# Altium integrated library test_lib.IntLib: 29 symbols (part 1 of 2)
Pins are listed as number, name and electrical type; pins without a type are passive.

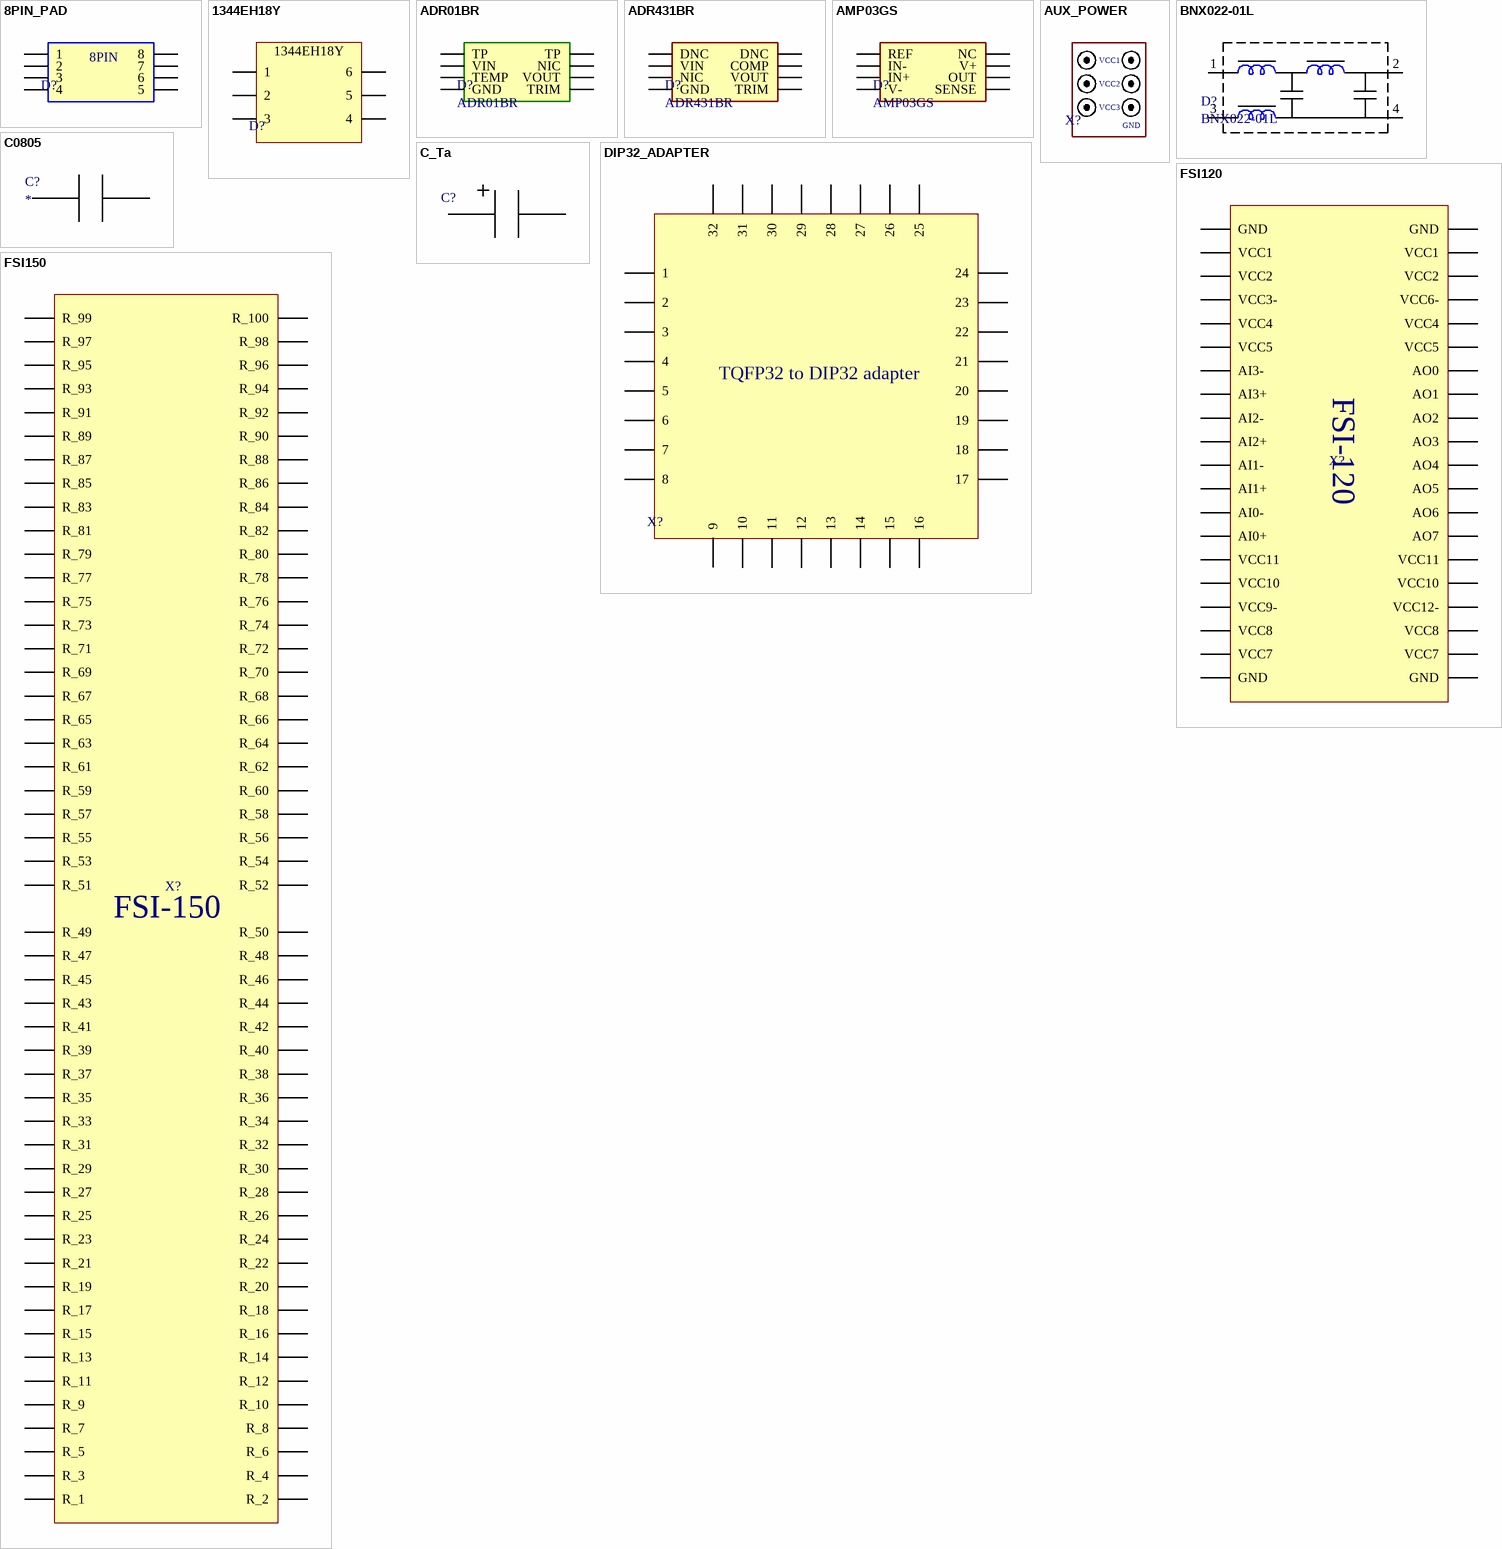
[diagram p0: symbols 8PIN_PAD to FSI150]

## 8PIN_PAD
designator D?  (value not drawn)
footprint 8PIN_PAD
pins: 1, 2, 3, 4, 5, 6, 7, 8
text: 8PIN

## 1344EH18Y
designator D?
pins: 1, 2, 3, 4, 5, 6

## ADR01BR
designator D?
precision voltage reference
footprint 8LEAD_SOIC (8LEAD SOIC ANALOG DEVICES)
pins: 1 TP, 2 VIN, 3 TEMP, 4 GND, 5 TRIM, 6 VOUT, 7 NIC, 8 TP

## ADR431BR
designator D?
low noise voltage reference
footprint 8LEAD_SOIC (8LEAD SOIC ANALOG DEVICES)
pins: 1 DNC, 2 VIN, 3 NIC, 4 GND, 5 TRIM, 6 VOUT, 7 COMP, 8 DNC

## AMP03GS
designator D?
precision differential amplifier
footprint 8LEAD_SOIC (8LEAD SOIC ANALOG DEVICES)
pins: 1 REF, 2 IN-, 3 IN+, 4 V-, 5 SENSE, 6 OUT, 7 V+, 8 NC

## AUX_POWER
designator X?  (value not drawn)
auxiliary power port (4110)
footprint AUX_POWER (auxiliary power port)
pins: 1, 2, 3, 4, 5, 6
text: VCC1; VCC2; VCC3; GND

## BNX022-01L
designator D?
emi suppression filter
footprint BNX022-01L (emi suppression filter)
pins: 1 B, 2 CB, 3 PSG, 4 CG

## C0805
designator C?
0805 ceramic capacitor; Capacity: *
footprint 0805 (0805 footprint)
pins: 1, 2

## C_Ta
designator C?  (value not drawn)
tantalum capacitor
footprint C_Ta
pins: 1, 2

## DIP32_ADAPTER
designator X?  (value not drawn)
footprint DIP_ADAPTER
pins: 1, 2, 3, 4, 5, 6, 7, 8, 9, 10, 11, 12, 13, 14, 15, 16, 17, 18, 19, 20, 21, 22, 23, 24, 25, 26, 27, 28, 29, 30, 31, 32
text: TQFP32 to DIP32 adapter

## FSI120
designator X?  (value not drawn)
footprint FSI-120
pins: 1 GND, 2 VCC7, 3 VCC8, 4 VCC9-, 5 VCC10, 6 VCC11, 7 AI0+, 8 AI0-, 9 AI1+, 10 AI1-, 11 AI2+, 12 AI2-, 13 AI3+, 14 AI3-, 15 VCC5, 16 VCC4, 17 VCC3-, 18 VCC2, 19 VCC1, 20 GND, 21 GND, 22 VCC1, 23 VCC2, 24 VCC6-, 25 VCC4, 26 VCC5, 27 AO0, 28 AO1, 29 AO2, 30 AO3, 31 AO4, 32 AO5, 33 AO6, 34 AO7, 35 VCC11, 36 VCC10, 37 VCC12-, 38 VCC8, 39 VCC7, 40 GND
text: FSI-120

## FSI150
designator X?  (value not drawn)
footprint FSI-150
pins: R_1, R_2, R_3, R_4, R_5, R_6, R_7, R_8, R_9, R_10, R_11, R_12, R_13, R_14, R_15, R_16, R_17, R_18, R_19, R_20, R_21, R_22, R_23, R_24, R_25, R_26, R_27, R_28, R_29, R_30, R_31, R_32, R_33, R_34, R_35, R_36, R_37, R_38, R_39, R_40, R_41, R_42, R_43, R_44, R_45, R_46, R_47, R_48, R_49, R_50, R_51, R_52, R_53, R_54, R_55, R_56, R_57, R_58, R_59, R_60, R_61, R_62, R_63, R_64, R_65, R_66, R_67, R_68, R_69, R_70, R_71, R_72, R_73, R_74, R_75, R_76, R_77, R_78, R_79, R_80, R_81, R_82, R_83, R_84, R_85, R_86, R_87, R_88, R_89, R_90, R_91, R_92, R_93, R_94, R_95, R_96, R_97, R_98, R_99, R_100
text: FSI-150

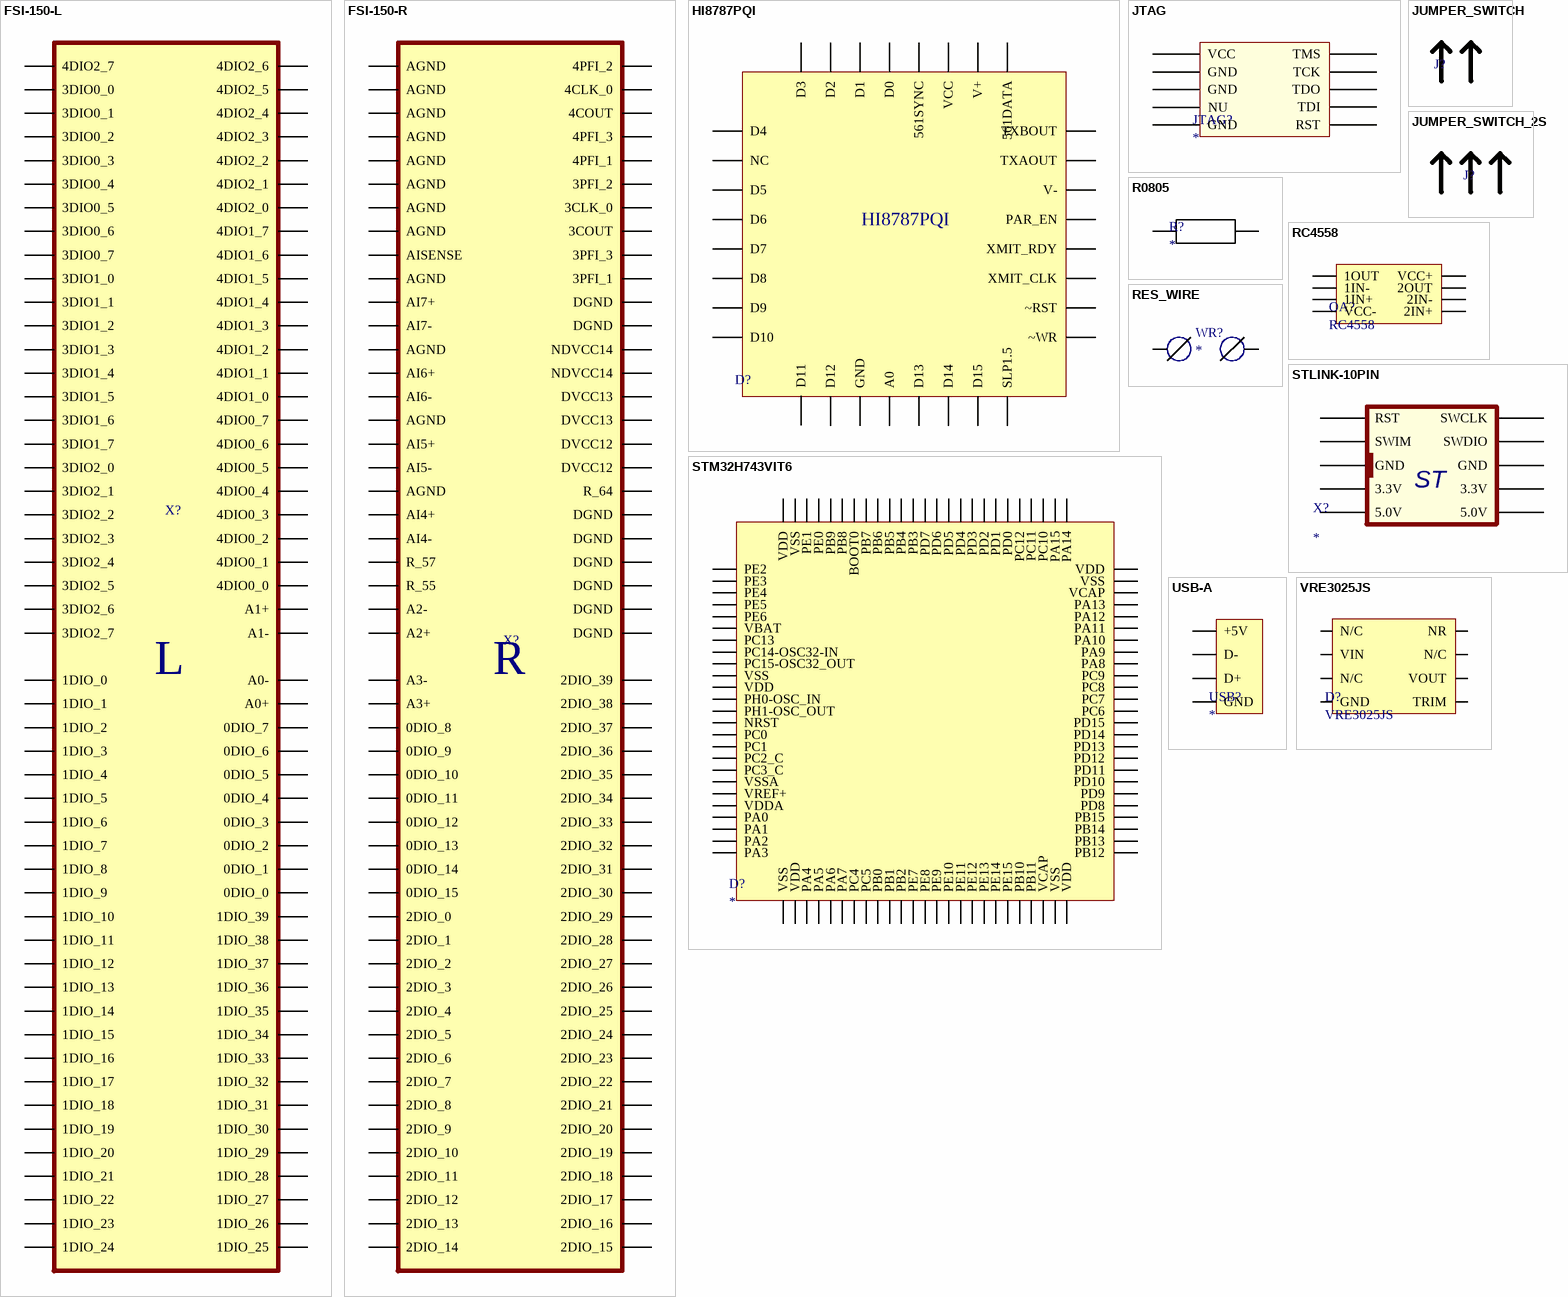
[diagram p1: symbols FSI-150-L to VRE3025JS]

## FSI-150-L
designator X?  (value not drawn)
fsi 150 left
footprint FSI-150
pins: R_1 1DIO_24, R_2 1DIO_25, R_3 1DIO_23, R_4 1DIO_26, R_5 1DIO_22, R_6 1DIO_27, R_7 1DIO_21, R_8 1DIO_28, R_9 1DIO_20, R_10 1DIO_29, R_11 1DIO_19, R_12 1DIO_30, R_13 1DIO_18, R_14 1DIO_31, R_15 1DIO_17, R_16 1DIO_32, R_17 1DIO_16, R_18 1DIO_33, R_19 1DIO_15, R_20 1DIO_34, R_21 1DIO_14, R_22 1DIO_35, R_23 1DIO_13, R_24 1DIO_36, R_25 1DIO_12, R_26 1DIO_37, R_27 1DIO_11, R_28 1DIO_38, R_29 1DIO_10, R_30 1DIO_39, R_31 1DIO_9, R_32 0DIO_0, R_33 1DIO_8, R_34 0DIO_1, R_35 1DIO_7, R_36 0DIO_2, R_37 1DIO_6, R_38 0DIO_3, R_39 1DIO_5, R_40 0DIO_4, R_41 1DIO_4, R_42 0DIO_5, R_43 1DIO_3, R_44 0DIO_6, R_45 1DIO_2, R_46 0DIO_7, R_47 1DIO_1, R_48 A0+, R_49 1DIO_0, R_50 A0-, R_51 3DIO2_7, R_52 A1-, R_53 3DIO2_6, R_54 A1+, R_55 3DIO2_5, R_56 4DIO0_0, R_57 3DIO2_4, R_58 4DIO0_1, R_59 3DIO2_3, R_60 4DIO0_2, R_61 3DIO2_2, R_62 4DIO0_3, R_63 3DIO2_1, R_64 4DIO0_4, R_65 3DIO2_0, R_66 4DIO0_5, R_67 3DIO1_7, R_68 4DIO0_6, R_69 3DIO1_6, R_70 4DIO0_7, R_71 3DIO1_5, R_72 4DIO1_0, R_73 3DIO1_4, R_74 4DIO1_1, R_75 3DIO1_3, R_76 4DIO1_2, R_77 3DIO1_2, R_78 4DIO1_3, R_79 3DIO1_1, R_80 4DIO1_4, R_81 3DIO1_0, R_82 4DIO1_5, R_83 3DIO0_7, R_84 4DIO1_6, R_85 3DIO0_6, R_86 4DIO1_7, R_87 3DIO0_5, R_88 4DIO2_0, R_89 3DIO0_4, R_90 4DIO2_1, R_91 3DIO0_3, R_92 4DIO2_2, R_93 3DIO0_2, R_94 4DIO2_3, R_95 3DIO0_1, R_96 4DIO2_4, R_97 3DIO0_0, R_98 4DIO2_5, R_99 4DIO2_7, R_100 4DIO2_6
text: L

## FSI-150-R
designator X?  (value not drawn)
fsi 150 right
footprint FSI-150
pins: R_1 2DIO_14, R_2 2DIO_15, R_3 2DIO_13, R_4 2DIO_16, R_5 2DIO_12, R_6 2DIO_17, R_7 2DIO_11, R_8 2DIO_18, R_9 2DIO_10, R_10 2DIO_19, R_11 2DIO_9, R_12 2DIO_20, R_13 2DIO_8, R_14 2DIO_21, R_15 2DIO_7, R_16 2DIO_22, R_17 2DIO_6, R_18 2DIO_23, R_19 2DIO_5, R_20 2DIO_24, R_21 2DIO_4, R_22 2DIO_25, R_23 2DIO_3, R_24 2DIO_26, R_25 2DIO_2, R_26 2DIO_27, R_27 2DIO_1, R_28 2DIO_28, R_29 2DIO_0, R_30 2DIO_29, R_31 0DIO_15, R_32 2DIO_30, R_33 0DIO_14, R_34 2DIO_31, R_35 0DIO_13, R_36 2DIO_32, R_37 0DIO_12, R_38 2DIO_33, R_39 0DIO_11, R_40 2DIO_34, R_41 0DIO_10, R_42 2DIO_35, R_43 0DIO_9, R_44 2DIO_36, R_45 0DIO_8, R_46 2DIO_37, R_47 A3+, R_48 2DIO_38, R_49 A3-, R_50 2DIO_39, R_51 A2+, R_52 DGND, R_53 A2-, R_54 DGND, R_55, R_56 DGND, R_57, R_58 DGND, R_59 AI4-, R_60 DGND, R_61 AI4+, R_62 DGND, R_63 AGND, R_64, R_65 AI5-, R_66 DVCC12, R_67 AI5+, R_68 DVCC12, R_69 AGND, R_70 DVCC13, R_71 AI6-, R_72 DVCC13, R_73 AI6+, R_74 NDVCC14, R_75 AGND, R_76 NDVCC14, R_77 AI7-, R_78 DGND, R_79 AI7+, R_80 DGND, R_81 AGND, R_82 3PFI_1, R_83 AISENSE, R_84 3PFI_3, R_85 AGND, R_86 3COUT, R_87 AGND, R_88 3CLK_0, R_89 AGND, R_90 3PFI_2, R_91 AGND, R_92 4PFI_1, R_93 AGND, R_94 4PFI_3, R_95 AGND, R_96 4COUT, R_97 AGND, R_98 4CLK_0, R_99 AGND, R_100 4PFI_2
text: R

## HI8787PQI
designator D?  (value not drawn)
footprint HI8787PQI
pins: 1 D4, 2 NC, 3 D5, 4 D6, 5 D7, 6 D8, 7 D9, 8 D10, 9 D11, 10 D12, 11 GND, 12 A0, 13 D13, 14 D14, 15 D15, 16 SLP1.5, 17 ~WR, 18 ~RST, 19 XMIT_CLK, 20 XMIT_RDY, 21 PAR_EN, 22 V-, 23 TXAOUT, 24 TXBOUT, 25 561DATA, 26 V+, 27 VCC, 28 561SYNC, 29 D0, 30 D1, 31 D2, 32 D3

## JTAG
designator JTAG?
jtag pld
footprint JTAG_PLD
pins: 1 VCC, 2 TMS, 3 GND, 4 TCK, 5 GND, 6 TDO, 7 NU, 8 TDI, 9 GND, 10 RST

## JUMPER_SWITCH
designator J?, comment jumper switch  (value not drawn)
footprint JUMPER_SWITCH
pins: 0, 1

## JUMPER_SWITCH_2S
designator J?
2 state jumper switch
footprint JUMPER_SWITCH_2S (2 state jumper switch)
pins: 0, 1, 2

## R0805
designator R?
0805 resistor; Resistance: *
footprint 0805
pins: 1, 2

## RC4558
designator OA?
opamp, ssop8 package
footprint RC4558 (TSOP, 8-Leads, RC4558 operation amplifier)
pins: 1 1OUT, 2 1IN-, 3 1IN+, 4 VCC-, 5 2IN+, 6 2IN-, 7 2OUT, 8 VCC+

## RES_WIRE
designator WR?
Resistance: *
footprint JUMPER_SWITCH
pins: 0, 1

## STLINK-10PIN
designator X?
разъём для китайского свистка
footprint JTAG_PLD
pins: 1 RST, 2 SWCLK, 3 SWIM, 4 SWDIO, 5 GND, 6 GND, 7 3.3V, 8 3.3V, 9 5.0V, 10 5.0V
text: ST

## STM32H743VIT6
designator D?
32-bit cortex m7 uc
footprint STM32H743VIT6 (cortex m7 uc)
pins: 1 PE2, 2 PE3, 3 PE4, 4 PE5, 5 PE6, 6 VBAT, 7 PC13, 8 PC14-OSC32-IN, 9 PC15-OSC32_OUT, 10 VSS, 11 VDD, 12 PH0-OSC_IN, 13 PH1-OSC_OUT, 14 NRST, 15 PC0, 16 PC1, 17 PC2_C, 18 PC3_C, 19 VSSA, 20 VREF+, 21 VDDA, 22 PA0, 23 PA1, 24 PA2, 25 PA3, 26 VSS, 27 VDD, 28 PA4, 29 PA5, 30 PA6, 31 PA7, 32 PC4, 33 PC5, 34 PB0, 35 PB1, 36 PB2, 37 PE7, 38 PE8, 39 PE9, 40 PE10, 41 PE11, 42 PE12, 43 PE13, 44 PE14, 45 PE15, 46 PB10, 47 PB11, 48 VCAP, 49 VSS, 50 VDD, 51 PB12, 52 PB13, 53 PB14, 54 PB15, 55 PD8, 56 PD9, 57 PD10, 58 PD11, 59 PD12, 60 PD13, 61 PD14, 62 PD15, 63 PC6, 64 PC7, 65 PC8, 66 PC9, 67 PA8, 68 PA9, 69 PA10, 70 PA11, 71 PA12, 72 PA13, 73 VCAP, 74 VSS, 75 VDD, 76 PA14, 77 PA15, 78 PC10, 79 PC11, 80 PC12, 81 PD0, 82 PD1, 83 PD2, 84 PD3, 85 PD4, 86 PD5, 87 PD6, 88 PD7, 89 PB3, 90 PB4, 91 PB5, 92 PB6, 93 PB7, 94 BOOT0, 95 PB8, 96 PB9, 97 PE0, 98 PE1, 99 VSS, 100 VDD

## USB-A
designator USB?
usb-a female header
footprint MICRO_USB (smd micro usb connector)
pins: 1 +5V, 2 D-, 3 D+, 4 GND

## VRE3025JS
designator D?
footprint VRE3025JS
pins: 1 N/C, 2 VIN, 3 N/C, 4 GND, 5 TRIM, 6 VOUT, 7 N/C, 8 NR

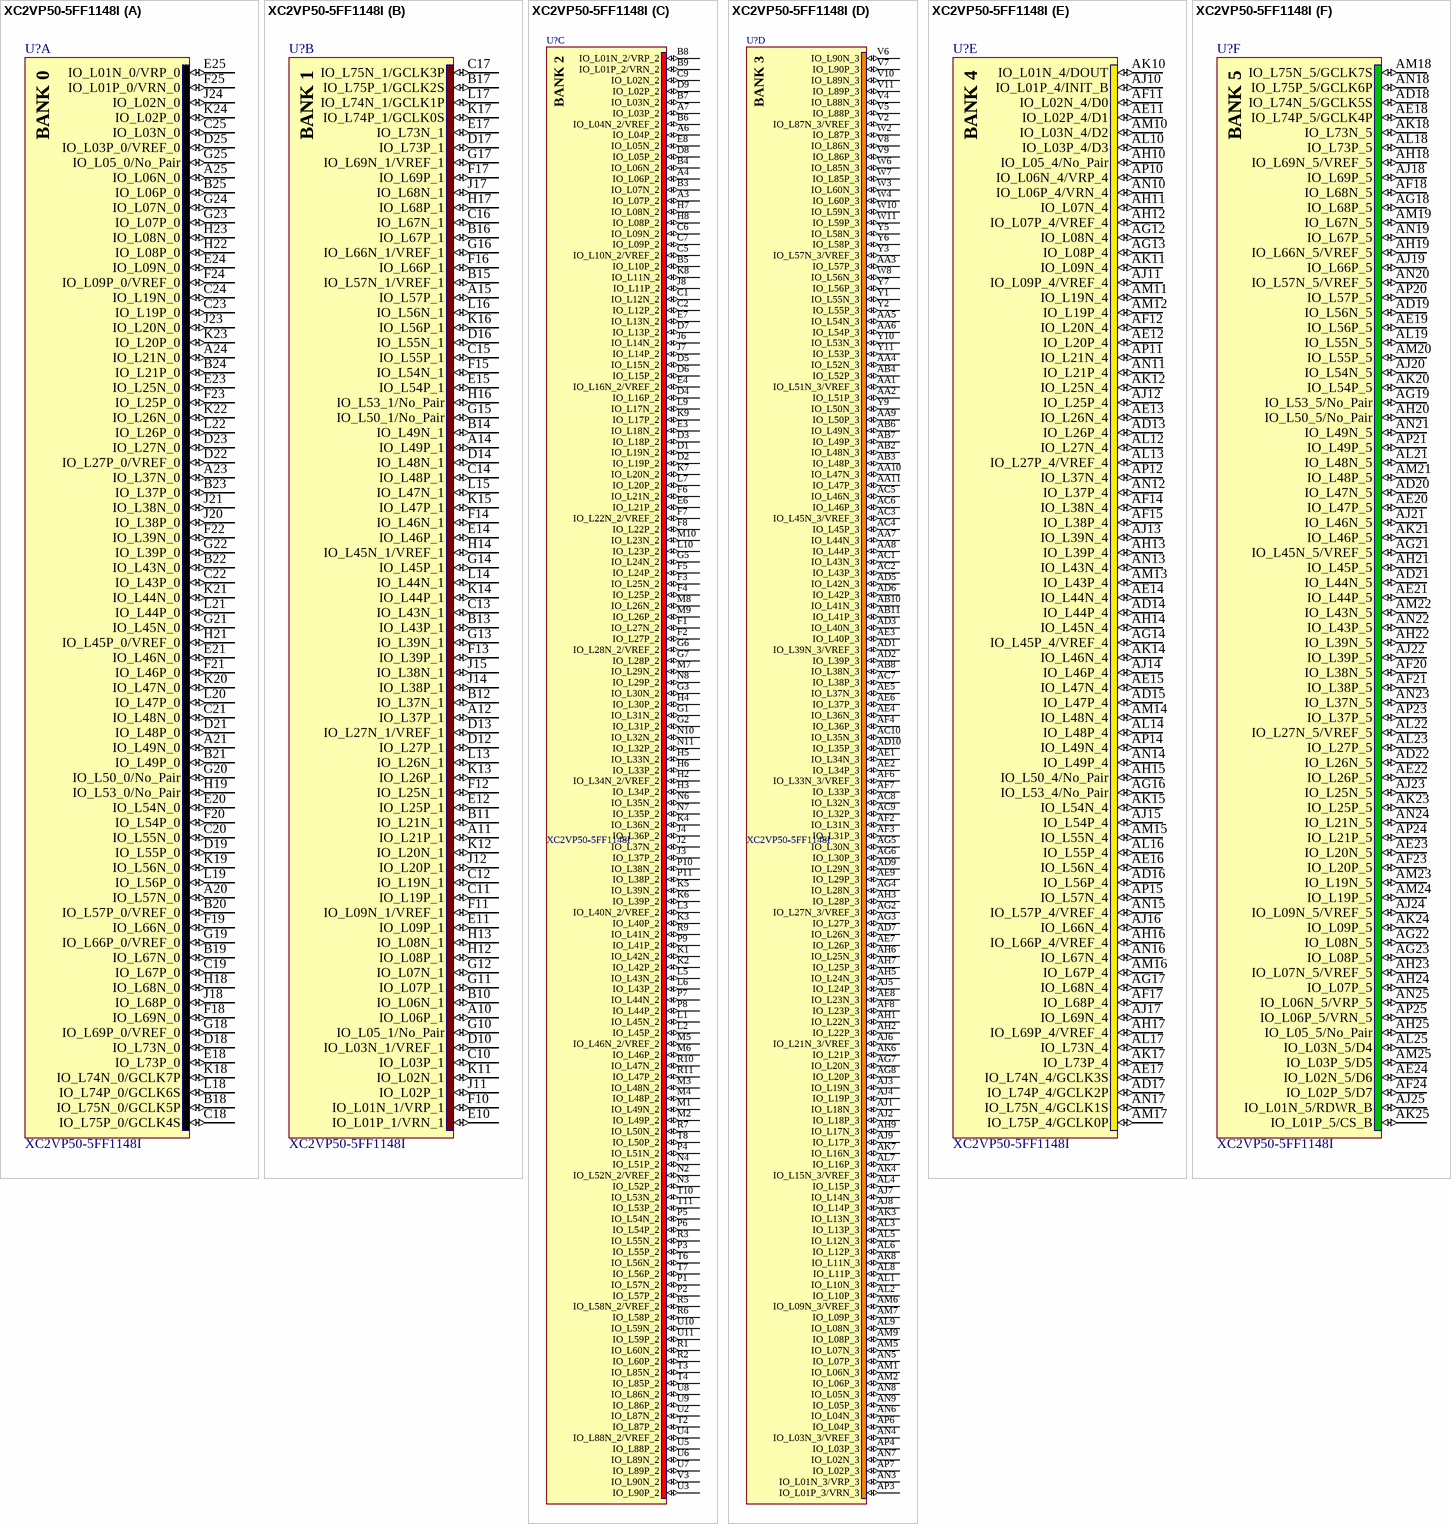
[diagram p2: symbol XC2VP50-5FF1148I]

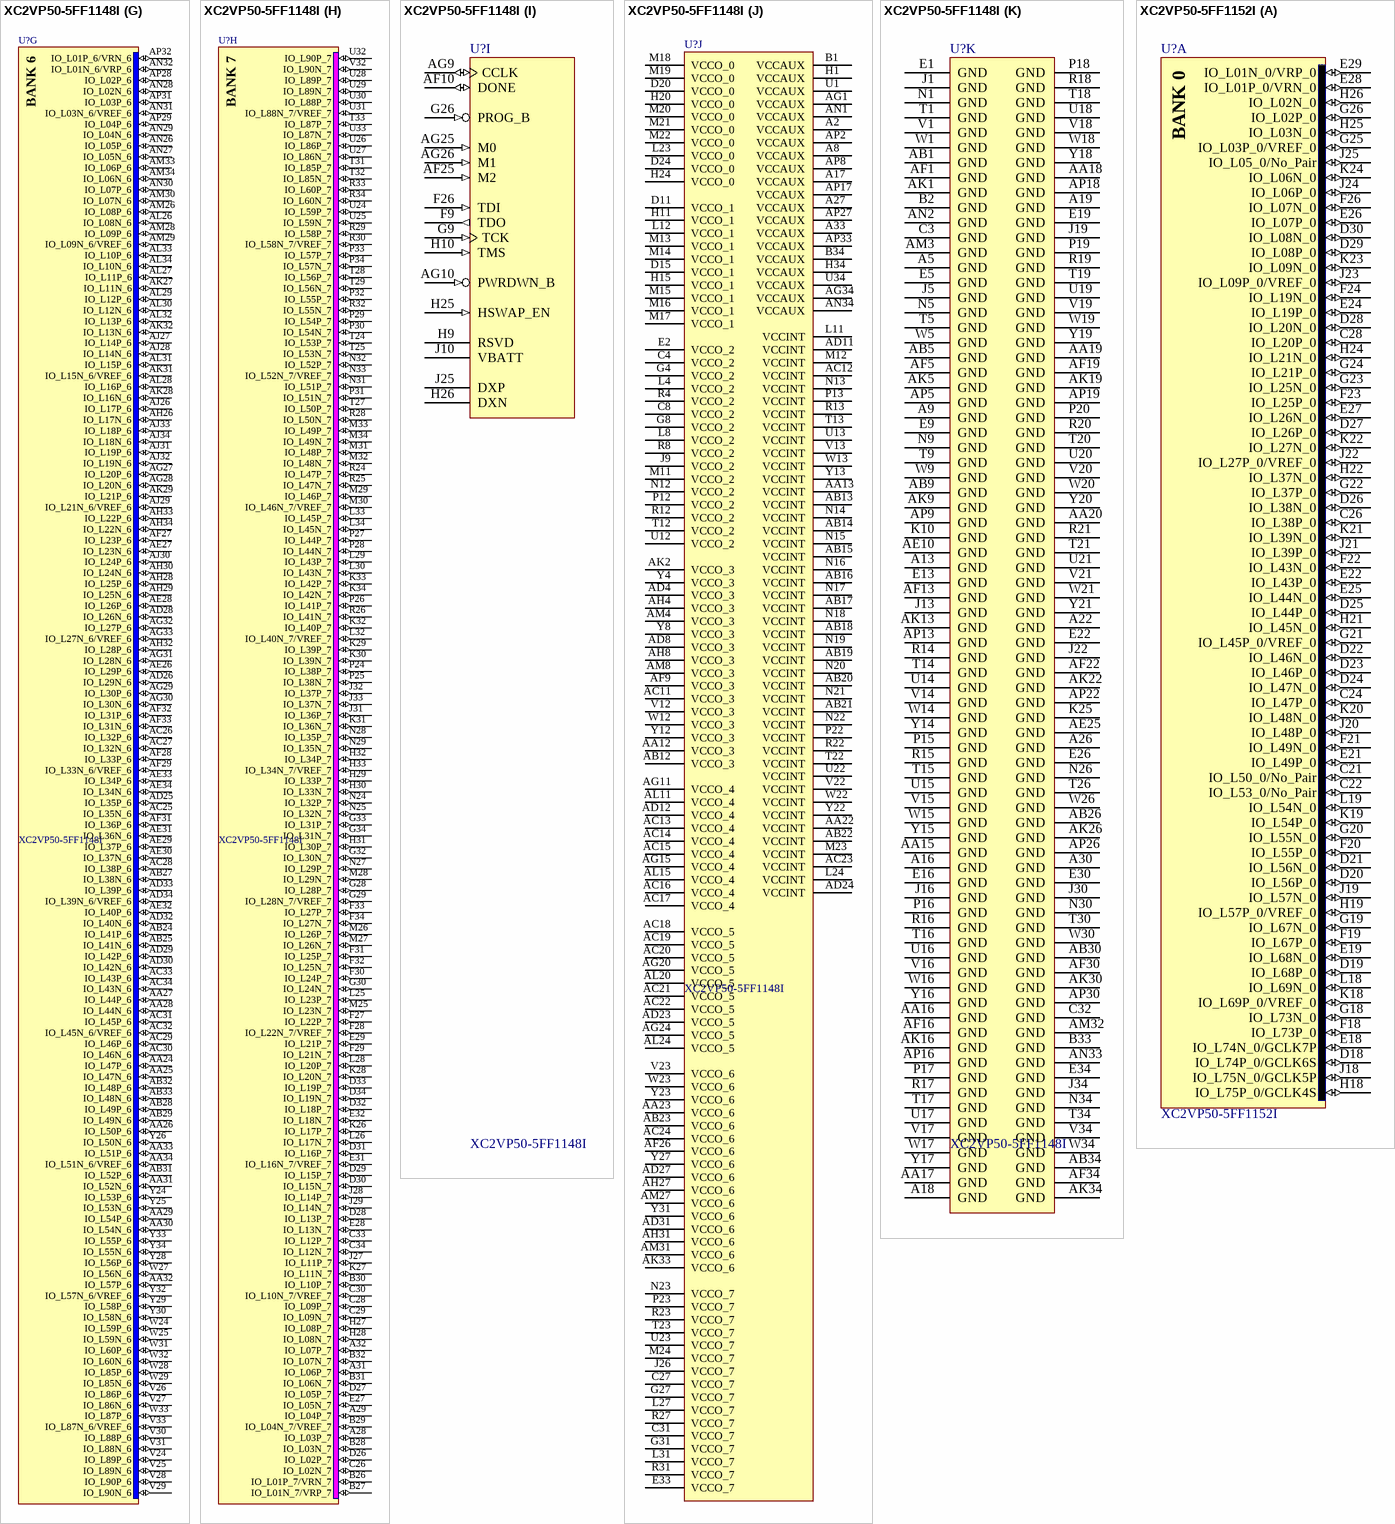
[diagram p3: symbols XC2VP50-5FF1148I to XC2VP50-5FF1152I]

## XC2VP50-5FF1148I
designator U?
Virtex-II Pro Platform FPGA, 812 User I/Os, 1148-Ball FFBGA, Speed Grade 5, Industrial Grade; User_I/Os: 812; DatasheetVersion: ver4.7, Nov-2007; Code_JEDEC: MS-034-AAR-1 (Depopulated); PackageVersion: ver1.0, Oct-2002; PackageReference: FF1148; PackageDescription: 1148-Ball Flip Chip Fine Pitch Ball Grid Array (FF1148); PartNumber: XC2VP50-5FF1148I
footprint FF1148 (1148-Ball Flip Chip Fine Pitch Ball Grid Array (FF1148))
footprint ff1152-socket
part A pins: A20 IO_L57N_0 (io), A21 IO_L49N_0 (io), A23 IO_L37N_0 (io), A24 IO_L21N_0 (io), A25 IO_L06N_0 (io), B18 IO_L75N_0/GCLK5P (io), B19 IO_L67N_0 (io), B20 IO_L57P_0/VREF_0 (io), B21 IO_L49P_0 (io), B22 IO_L43N_0 (io), B23 IO_L37P_0 (io), B24 IO_L21P_0 (io), B25 IO_L06P_0 (io), C18 IO_L75P_0/GCLK4S (io), C19 IO_L67P_0 (io), C20 IO_L55N_0 (io), C21 IO_L48N_0 (io), C22 IO_L43P_0 (io), C23 IO_L19P_0 (io), C24 IO_L19N_0 (io), C25 IO_L03N_0 (io), D18 IO_L73N_0 (io), D19 IO_L55P_0 (io), D21 IO_L48P_0 (io), D22 IO_L27P_0/VREF_0 (io), D23 IO_L27N_0 (io), D25 IO_L03P_0/VREF_0 (io), E18 IO_L73P_0 (io), E20 IO_L54N_0 (io), E21 IO_L46N_0 (io), E23 IO_L25N_0 (io), E24 IO_L09N_0 (io), E25 IO_L01N_0/VRP_0 (io), F18 IO_L69N_0 (io), F19 IO_L66N_0 (io), F20 IO_L54P_0 (io), F21 IO_L46P_0 (io), F22 IO_L39N_0 (io), F23 IO_L25P_0 (io), F24 IO_L09P_0/VREF_0 (io), F25 IO_L01P_0/VRN_0 (io), G18 IO_L69P_0/VREF_0 (io), G19 IO_L66P_0/VREF_0 (io), G20 IO_L50_0/No_Pair (io), G21 IO_L45N_0 (io), G22 IO_L39P_0 (io), G23 IO_L07P_0 (io), G24 IO_L07N_0 (io), G25 IO_L05_0/No_Pair (io), H18 IO_L68N_0 (io), H19 IO_L53_0/No_Pair (io), H21 IO_L45P_0/VREF_0 (io), H22 IO_L08P_0 (io), H23 IO_L08N_0 (io), J18 IO_L68P_0 (io), J20 IO_L38P_0 (io), J21 IO_L38N_0 (io), J23 IO_L20N_0 (io), J24 IO_L02N_0 (io), K18 IO_L74N_0/GCLK7P (io), K19 IO_L56N_0 (io), K20 IO_L47N_0 (io), K21 IO_L44N_0 (io), K22 IO_L26N_0 (io), K23 IO_L20P_0 (io), K24 IO_L02P_0 (io), L18 IO_L74P_0/GCLK6S (io), L19 IO_L56P_0 (io), L20 IO_L47P_0 (io), L21 IO_L44P_0 (io), L22 IO_L26P_0 (io)
part B pins: A10 IO_L06P_1 (io), A11 IO_L21P_1 (io), A12 IO_L37P_1 (io), A14 IO_L49P_1 (io), A15 IO_L57P_1 (io), B10 IO_L06N_1 (io), B11 IO_L21N_1 (io), B12 IO_L37N_1 (io), B13 IO_L43P_1 (io), B14 IO_L49N_1 (io), B15 IO_L57N_1/VREF_1 (io), B16 IO_L67P_1 (io), B17 IO_L75P_1/GCLK2S (io), C10 IO_L03P_1 (io), C11 IO_L19P_1 (io), C12 IO_L19N_1 (io), C13 IO_L43N_1 (io), C14 IO_L48P_1 (io), C15 IO_L55P_1 (io), C16 IO_L67N_1 (io), C17 IO_L75N_1/GCLK3P (io), D10 IO_L03N_1/VREF_1 (io), D12 IO_L27P_1 (io), D13 IO_L27N_1/VREF_1 (io), D14 IO_L48N_1 (io), D16 IO_L55N_1 (io), D17 IO_L73P_1 (io), E10 IO_L01P_1/VRN_1 (io), E11 IO_L09P_1 (io), E12 IO_L25P_1 (io), E14 IO_L46P_1 (io), E15 IO_L54P_1 (io), E17 IO_L73N_1 (io), F10 IO_L01N_1/VRP_1 (io), F11 IO_L09N_1/VREF_1 (io), F12 IO_L25N_1 (io), F13 IO_L39P_1 (io), F14 IO_L46N_1 (io), F15 IO_L54N_1 (io), F16 IO_L66P_1 (io), F17 IO_L69P_1 (io), G10 IO_L05_1/No_Pair (io), G11 IO_L07P_1 (io), G12 IO_L07N_1 (io), G13 IO_L39N_1 (io), G14 IO_L45P_1 (io), G15 IO_L50_1/No_Pair (io), G16 IO_L66N_1/VREF_1 (io), G17 IO_L69N_1/VREF_1 (io), H12 IO_L08P_1 (io), H13 IO_L08N_1 (io), H14 IO_L45N_1/VREF_1 (io), H16 IO_L53_1/No_Pair (io), H17 IO_L68P_1 (io), J11 IO_L02P_1 (io), J12 IO_L20P_1 (io), J14 IO_L38P_1 (io), J15 IO_L38N_1 (io), J17 IO_L68N_1 (io), K11 IO_L02N_1 (io), K12 IO_L20N_1 (io), K13 IO_L26P_1 (io), K14 IO_L44P_1 (io), K15 IO_L47P_1 (io), K16 IO_L56P_1 (io), K17 IO_L74P_1/GCLK0S (io), L13 IO_L26N_1 (io), L14 IO_L44N_1 (io), L15 IO_L47N_1 (io), L16 IO_L56N_1 (io), L17 IO_L74N_1/GCLK1P (io)
part C pins: A3 IO_L07P_2 (io), A4 IO_L06P_2 (io), A6 IO_L04P_2 (io), A7 IO_L03P_2 (io), B3 IO_L07N_2 (io), B4 IO_L06N_2 (io), B5 IO_L10P_2 (io), B6 IO_L04N_2/VREF_2 (io), B7 IO_L03N_2 (io), B8 IO_L01N_2/VRP_2 (io), B9 IO_L01P_2/VRN_2 (io), C1 IO_L12N_2 (io), C2 IO_L12P_2 (io), C5 IO_L10N_2/VREF_2 (io), C6 IO_L09N_2 (io), C7 IO_L09P_2 (io), C9 IO_L02N_2 (io), D1 IO_L19N_2 (io), D2 IO_L19P_2 (io), D3 IO_L18P_2 (io), D4 IO_L16P_2 (io), D5 IO_L15N_2 (io), D6 IO_L15P_2 (io), D7 IO_L13P_2 (io), D8 IO_L05P_2 (io), D9 IO_L02P_2 (io), E3 IO_L18N_2 (io), E4 IO_L16N_2/VREF_2 (io), E6 IO_L21P_2 (io), E7 IO_L13N_2 (io), E8 IO_L05N_2 (io), F1 IO_L27N_2 (io), F2 IO_L27P_2 (io), F3 IO_L25N_2 (io), F4 IO_L25P_2 (io), F5 IO_L24P_2 (io), F6 IO_L21N_2 (io), F7 IO_L22N_2/VREF_2 (io), F8 IO_L22P_2 (io), G1 IO_L31N_2 (io), G2 IO_L31P_2 (io), G3 IO_L30N_2 (io), G5 IO_L24N_2 (io), G6 IO_L28N_2/VREF_2 (io), G7 IO_L28P_2 (io), H2 IO_L34N_2/VREF_2 (io), H3 IO_L34P_2 (io), H4 IO_L30P_2 (io), H5 IO_L33N_2 (io), H6 IO_L33P_2 (io), H7 IO_L08N_2 (io), H8 IO_L08P_2 (io), J2 IO_L37N_2 (io), J3 IO_L37P_2 (io), J4 IO_L36P_2 (io), J6 IO_L14N_2 (io), J7 IO_L14P_2 (io), J8 IO_L11P_2 (io), K1 IO_L42N_2 (io), K2 IO_L42P_2 (io), K3 IO_L40P_2 (io), K4 IO_L36N_2 (io), K5 IO_L39N_2 (io), K6 IO_L39P_2 (io), K7 IO_L20N_2 (io), K8 IO_L11N_2 (io), K9 IO_L17P_2 (io), L1 IO_L45N_2 (io), L2 IO_L45P_2 (io), L3 IO_L40N_2/VREF_2 (io), L5 IO_L43N_2 (io), L6 IO_L43P_2 (io), L7 IO_L20P_2 (io), L9 IO_L17N_2 (io), L10 IO_L23P_2 (io), M1 IO_L49N_2 (io), M2 IO_L49P_2 (io), M3 IO_L48N_2 (io), M4 IO_L48P_2 (io), M5 IO_L46N_2/VREF_2 (io), M6 IO_L46P_2 (io), M7 IO_L29N_2 (io), M8 IO_L26N_2 (io), M9 IO_L26P_2 (io), M10 IO_L23N_2 (io), N2 IO_L52N_2/VREF_2 (io), N3 IO_L52P_2 (io), N4 IO_L51P_2 (io), N6 IO_L35N_2 (io), N7 IO_L35P_2 (io), N8 IO_L29P_2 (io), N10 IO_L32N_2 (io), N11 IO_L32P_2 (io), P1 IO_L57N_2 (io), P2 IO_L57P_2 (io), P3 IO_L55P_2 (io), P4 IO_L51N_2 (io), P5 IO_L54N_2 (io), P6 IO_L54P_2 (io), P7 IO_L44N_2 (io), P8 IO_L44P_2 (io), P9 IO_L41P_2 (io), P10 IO_L38N_2 (io), P11 IO_L38P_2 (io), R1 IO_L60N_2 (io), R2 IO_L60P_2 (io), R3 IO_L55N_2 (io), R5 IO_L58N_2/VREF_2 (io), R6 IO_L58P_2 (io), R7 IO_L50N_2 (io), R9 IO_L41N_2 (io), R10 IO_L47N_2 (io), R11 IO_L47P_2 (io), T2 IO_L87P_2 (io), T3 IO_L85N_2 (io), T4 IO_L85P_2 (io), T6 IO_L56N_2 (io), T7 IO_L56P_2 (io), T8 IO_L50P_2 (io), T10 IO_L53N_2 (io), T11 IO_L53P_2 (io), U2 IO_L87N_2 (io), U3 IO_L90P_2 (io), U4 IO_L88N_2/VREF_2 (io), U5 IO_L88P_2 (io), U6 IO_L89N_2 (io), U7 IO_L89P_2 (io), U8 IO_L86N_2 (io), U9 IO_L86P_2 (io), U10 IO_L59N_2 (io), U11 IO_L59P_2 (io), V3 IO_L90N_2 (io)
part D pins: AA1 IO_L51N_3/VREF_3 (io), AA2 IO_L51P_3 (io), AA3 IO_L57P_3 (io), AA4 IO_L52N_3 (io), AA5 IO_L54N_3 (io), AA6 IO_L54P_3 (io), AA7 IO_L44N_3 (io), AA8 IO_L44P_3 (io), AA9 IO_L50P_3 (io), AA10 IO_L47N_3 (io), AA11 IO_L47P_3 (io), AB2 IO_L48N_3 (io), AB3 IO_L48P_3 (io), AB4 IO_L52P_3 (io), AB6 IO_L49N_3 (io), AB7 IO_L49P_3 (io), AB8 IO_L38N_3 (io), AB10 IO_L41N_3 (io), AB11 IO_L41P_3 (io), AC1 IO_L43N_3 (io), AC2 IO_L43P_3 (io), AC3 IO_L45N_3/VREF_3 (io), AC4 IO_L45P_3 (io), AC5 IO_L46N_3 (io), AC6 IO_L46P_3 (io), AC7 IO_L38P_3 (io), AC8 IO_L32N_3 (io), AC9 IO_L32P_3 (io), AC10 IO_L35N_3 (io), AD1 IO_L39N_3/VREF_3 (io), AD2 IO_L39P_3 (io), AD3 IO_L40N_3 (io), AD5 IO_L42N_3 (io), AD6 IO_L42P_3 (io), AD7 IO_L26N_3 (io), AD9 IO_L29N_3 (io), AD10 IO_L35P_3 (io), AE1 IO_L34N_3 (io), AE2 IO_L34P_3 (io), AE3 IO_L40P_3 (io), AE4 IO_L36N_3 (io), AE5 IO_L37N_3 (io), AE6 IO_L37P_3 (io), AE7 IO_L26P_3 (io), AE8 IO_L23N_3 (io), AE9 IO_L29P_3 (io), AF2 IO_L31N_3 (io), AF3 IO_L31P_3 (io), AF4 IO_L36P_3 (io), AF6 IO_L33N_3/VREF_3 (io), AF7 IO_L33P_3 (io), AF8 IO_L23P_3 (io), AG2 IO_L27N_3/VREF_3 (io), AG3 IO_L27P_3 (io), AG4 IO_L28N_3 (io), AG5 IO_L30N_3 (io), AG6 IO_L30P_3 (io), AG7 IO_L20N_3 (io), AG8 IO_L20P_3 (io), AH1 IO_L22N_3 (io), AH2 IO_L22P_3 (io), AH3 IO_L28P_3 (io), AH5 IO_L24N_3 (io), AH6 IO_L25N_3 (io), AH7 IO_L25P_3 (io), AH9 IO_L17N_3 (io), AJ1 IO_L18N_3 (io), AJ2 IO_L18P_3 (io), AJ3 IO_L19N_3 (io), AJ4 IO_L19P_3 (io), AJ5 IO_L24P_3 (io), AJ6 IO_L21N_3/VREF_3 (io), AJ7 IO_L14N_3 (io), AJ8 IO_L14P_3 (io), AJ9 IO_L17P_3 (io), AK3 IO_L13N_3 (io), AK4 IO_L15N_3/VREF_3 (io), AK6 IO_L21P_3 (io), AK7 IO_L16N_3 (io), AK8 IO_L11N_3 (io), AL1 IO_L10N_3 (io), AL2 IO_L10P_3 (io), AL3 IO_L13P_3 (io), AL4 IO_L15P_3 (io), AL5 IO_L12N_3 (io), AL6 IO_L12P_3 (io), AL7 IO_L16P_3 (io), AL8 IO_L11P_3 (io), AL9 IO_L08N_3 (io), AM1 IO_L06N_3 (io), AM2 IO_L06P_3 (io), AM5 IO_L07N_3 (io), AM6 IO_L09N_3/VREF_3 (io), AM7 IO_L09P_3 (io), AM9 IO_L08P_3 (io), AN3 IO_L01N_3/VRP_3 (io), AN4 IO_L03N_3/VREF_3 (io), AN5 IO_L07P_3 (io), AN6 IO_L04N_3 (io), AN7 IO_L02N_3 (io), AN8 IO_L05N_3 (io), AN9 IO_L05P_3 (io), AP3 IO_L01P_3/VRN_3 (io), AP4 IO_L03P_3 (io), AP6 IO_L04P_3 (io), AP7 IO_L02P_3 (io), V2 IO_L87N_3/VREF_3 (io), V4 IO_L88N_3 (io), V5 IO_L88P_3 (io), V6 IO_L90N_3 (io), V7 IO_L90P_3 (io), V8 IO_L86N_3 (io), V9 IO_L86P_3 (io), V10 IO_L89N_3 (io), V11 IO_L89P_3 (io), W2 IO_L87P_3 (io), W3 IO_L60N_3 (io), W4 IO_L60P_3 (io), W6 IO_L85N_3 (io), W7 IO_L85P_3 (io), W8 IO_L56N_3 (io), W10 IO_L59N_3 (io), W11 IO_L59P_3 (io), Y1 IO_L55N_3 (io), Y2 IO_L55P_3 (io), Y3 IO_L57N_3/VREF_3 (io), Y5 IO_L58N_3 (io), Y6 IO_L58P_3 (io), Y7 IO_L56P_3 (io), Y9 IO_L50N_3 (io), Y10 IO_L53N_3 (io), Y11 IO_L53P_3 (io)
part E pins: AD13 IO_L26P_4 (io), AD14 IO_L44P_4 (io), AD15 IO_L47P_4 (io), AD16 IO_L56P_4 (io), AD17 IO_L74P_4/GCLK2P (io), AE11 IO_L02P_4/D1 (io), AE12 IO_L20P_4 (io), AE13 IO_L26N_4 (io), AE14 IO_L44N_4 (io), AE15 IO_L47N_4 (io), AE16 IO_L56N_4 (io), AE17 IO_L74N_4/GCLK3S (io), AF11 IO_L02N_4/D0 (io), AF12 IO_L20N_4 (io), AF14 IO_L38N_4 (io), AF15 IO_L38P_4 (io), AF17 IO_L68P_4 (io), AG12 IO_L08N_4 (io), AG13 IO_L08P_4 (io), AG14 IO_L45P_4/VREF_4 (io), AG16 IO_L53_4/No_Pair (io), AG17 IO_L68N_4 (io), AH10 IO_L05_4/No_Pair (io), AH11 IO_L07N_4 (io), AH12 IO_L07P_4/VREF_4 (io), AH13 IO_L39P_4 (io), AH14 IO_L45N_4 (io), AH15 IO_L50_4/No_Pair (io), AH16 IO_L66P_4/VREF_4 (io), AH17 IO_L69P_4/VREF_4 (io), AJ10 IO_L01P_4/INIT_B (io), AJ11 IO_L09P_4/VREF_4 (io), AJ12 IO_L25P_4 (io), AJ13 IO_L39N_4 (io), AJ14 IO_L46P_4 (io), AJ15 IO_L54P_4 (io), AJ16 IO_L66N_4 (io), AJ17 IO_L69N_4 (io), AK10 IO_L01N_4/DOUT (io), AK11 IO_L09N_4 (io), AK12 IO_L25N_4 (io), AK14 IO_L46N_4 (io), AK15 IO_L54N_4 (io), AK17 IO_L73P_4 (io), AL10 IO_L03P_4/D3 (io), AL12 IO_L27N_4 (io), AL13 IO_L27P_4/VREF_4 (io), AL14 IO_L48P_4 (io), AL16 IO_L55P_4 (io), AL17 IO_L73N_4 (io), AM10 IO_L03N_4/D2 (io), AM11 IO_L19N_4 (io), AM12 IO_L19P_4 (io), AM13 IO_L43P_4 (io), AM14 IO_L48N_4 (io), AM15 IO_L55N_4 (io), AM16 IO_L67P_4 (io), AM17 IO_L75P_4/GCLK0P (io), AN10 IO_L06P_4/VRN_4 (io), AN11 IO_L21P_4 (io), AN12 IO_L37P_4 (io), AN13 IO_L43N_4 (io), AN14 IO_L49P_4 (io), AN15 IO_L57P_4/VREF_4 (io), AN16 IO_L67N_4 (io), AN17 IO_L75N_4/GCLK1S (io), AP10 IO_L06N_4/VRP_4 (io), AP11 IO_L21N_4 (io), AP12 IO_L37N_4 (io), AP14 IO_L49N_4 (io), AP15 IO_L57N_4 (io)
part F pins: AD18 IO_L74N_5/GCLK5S (io), AD19 IO_L56N_5 (io), AD20 IO_L47N_5 (io), AD21 IO_L44N_5 (io), AD22 IO_L26N_5 (io), AE18 IO_L74P_5/GCLK4P (io), AE19 IO_L56P_5 (io), AE20 IO_L47P_5 (io), AE21 IO_L44P_5 (io), AE22 IO_L26P_5 (io), AE23 IO_L20N_5 (io), AE24 IO_L02N_5/D6 (io), AF18 IO_L68N_5 (io), AF20 IO_L38N_5 (io), AF21 IO_L38P_5 (io), AF23 IO_L20P_5 (io), AF24 IO_L02P_5/D7 (io), AG18 IO_L68P_5 (io), AG19 IO_L53_5/No_Pair (io), AG21 IO_L45N_5/VREF_5 (io), AG22 IO_L08N_5 (io), AG23 IO_L08P_5 (io), AH18 IO_L69N_5/VREF_5 (io), AH19 IO_L66N_5/VREF_5 (io), AH20 IO_L50_5/No_Pair (io), AH21 IO_L45P_5 (io), AH22 IO_L39N_5 (io), AH23 IO_L07N_5/VREF_5 (io), AH24 IO_L07P_5 (io), AH25 IO_L05_5/No_Pair (io), AJ18 IO_L69P_5 (io), AJ19 IO_L66P_5 (io), AJ20 IO_L54N_5 (io), AJ21 IO_L46N_5 (io), AJ22 IO_L39P_5 (io), AJ23 IO_L25N_5 (io), AJ24 IO_L09N_5/VREF_5 (io), AJ25 IO_L01N_5/RDWR_B (io), AK18 IO_L73N_5 (io), AK20 IO_L54P_5 (io), AK21 IO_L46P_5 (io), AK23 IO_L25P_5 (io), AK24 IO_L09P_5 (io), AK25 IO_L01P_5/CS_B (io), AL18 IO_L73P_5 (io), AL19 IO_L55N_5 (io), AL21 IO_L48N_5 (io), AL22 IO_L27N_5/VREF_5 (io), AL23 IO_L27P_5 (io), AL25 IO_L03N_5/D4 (io), AM18 IO_L75N_5/GCLK7S (io), AM19 IO_L67N_5 (io), AM20 IO_L55P_5 (io), AM21 IO_L48P_5 (io), AM22 IO_L43N_5 (io), AM23 IO_L19N_5 (io), AM24 IO_L19P_5 (io), AM25 IO_L03P_5/D5 (io), AN18 IO_L75P_5/GCLK6P (io), AN19 IO_L67P_5 (io), AN20 IO_L57N_5/VREF_5 (io), AN21 IO_L49N_5 (io), AN22 IO_L43P_5 (io), AN23 IO_L37N_5 (io), AN24 IO_L21N_5 (io), AN25 IO_L06N_5/VRP_5 (io), AP20 IO_L57P_5 (io), AP21 IO_L49P_5 (io), AP23 IO_L37P_5 (io), AP24 IO_L21P_5 (io), AP25 IO_L06P_5/VRN_5 (io)
part G pins: AA24 IO_L47P_6 (io), AA25 IO_L47N_6 (io), AA26 IO_L50P_6 (io), AA27 IO_L44P_6 (io), AA28 IO_L44N_6 (io), AA29 IO_L54P_6 (io), AA30 IO_L54N_6 (io), AA31 IO_L52N_6 (io), AA32 IO_L57P_6 (io), AA33 IO_L51P_6 (io), AA34 IO_L51N_6/VREF_6 (io), AB24 IO_L41P_6 (io), AB25 IO_L41N_6 (io), AB27 IO_L38N_6 (io), AB28 IO_L49P_6 (io), AB29 IO_L49N_6 (io), AB31 IO_L52P_6 (io), AB32 IO_L48P_6 (io), AB33 IO_L48N_6 (io), AC25 IO_L35N_6 (io), AC26 IO_L32P_6 (io), AC27 IO_L32N_6 (io), AC28 IO_L38P_6 (io), AC29 IO_L46P_6 (io), AC30 IO_L46N_6 (io), AC31 IO_L45P_6 (io), AC32 IO_L45N_6/VREF_6 (io), AC33 IO_L43P_6 (io), AC34 IO_L43N_6 (io), AD25 IO_L35P_6 (io), AD26 IO_L29N_6 (io), AD28 IO_L26N_6 (io), AD29 IO_L42P_6 (io), AD30 IO_L42N_6 (io), AD32 IO_L40N_6 (io), AD33 IO_L39P_6 (io), AD34 IO_L39N_6/VREF_6 (io), AE26 IO_L29P_6 (io), AE27 IO_L23N_6 (io), AE28 IO_L26P_6 (io), AE29 IO_L37P_6 (io), AE30 IO_L37N_6 (io), AE31 IO_L36N_6 (io), AE32 IO_L40P_6 (io), AE33 IO_L34P_6 (io), AE34 IO_L34N_6 (io), AF27 IO_L23P_6 (io), AF28 IO_L33P_6 (io), AF29 IO_L33N_6/VREF_6 (io), AF31 IO_L36P_6 (io), AF32 IO_L31P_6 (io), AF33 IO_L31N_6 (io), AG27 IO_L20P_6 (io), AG28 IO_L20N_6 (io), AG29 IO_L30P_6 (io), AG30 IO_L30N_6 (io), AG31 IO_L28N_6 (io), AG32 IO_L27P_6 (io), AG33 IO_L27N_6/VREF_6 (io), AH26 IO_L17N_6 (io), AH28 IO_L25P_6 (io), AH29 IO_L25N_6 (io), AH30 IO_L24N_6 (io), AH32 IO_L28P_6 (io), AH33 IO_L22P_6 (io), AH34 IO_L22N_6 (io), AJ26 IO_L17P_6 (io), AJ27 IO_L14P_6 (io), AJ28 IO_L14N_6 (io), AJ29 IO_L21N_6/VREF_6 (io), AJ30 IO_L24P_6 (io), AJ31 IO_L19P_6 (io), AJ32 IO_L19N_6 (io), AJ33 IO_L18P_6 (io), AJ34 IO_L18N_6 (io), AK27 IO_L11N_6 (io), AK28 IO_L16N_6 (io), AK29 IO_L21P_6 (io), AK31 IO_L15N_6/VREF_6 (io), AK32 IO_L13N_6 (io), AL26 IO_L08N_6 (io), AL27 IO_L11P_6 (io), AL28 IO_L16P_6 (io), AL29 IO_L12P_6 (io), AL30 IO_L12N_6 (io), AL31 IO_L15P_6 (io), AL32 IO_L13P_6 (io), AL33 IO_L10P_6 (io), AL34 IO_L10N_6 (io), AM26 IO_L08P_6 (io), AM28 IO_L09P_6 (io), AM29 IO_L09N_6/VREF_6 (io), AM30 IO_L07N_6 (io), AM33 IO_L06P_6 (io), AM34 IO_L06N_6 (io), AN26 IO_L05P_6 (io), AN27 IO_L05N_6 (io), AN28 IO_L02N_6 (io), AN29 IO_L04N_6 (io), AN30 IO_L07P_6 (io), AN31 IO_L03N_6/VREF_6 (io), AN32 IO_L01N_6/VRP_6 (io), AP28 IO_L02P_6 (io), AP29 IO_L04P_6 (io), AP31 IO_L03P_6 (io), AP32 IO_L01P_6/VRN_6 (io), V24 IO_L89P_6 (io), V25 IO_L89N_6 (io), V26 IO_L86P_6 (io), V27 IO_L86N_6 (io), V28 IO_L90P_6 (io), V29 IO_L90N_6 (io), V30 IO_L88P_6 (io), V31 IO_L88N_6 (io), V33 IO_L87N_6/VREF_6 (io), W24 IO_L59P_6 (io), W25 IO_L59N_6 (io), W27 IO_L56N_6 (io), W28 IO_L85P_6 (io), W29 IO_L85N_6 (io), W31 IO_L60P_6 (io), W32 IO_L60N_6 (io), W33 IO_L87P_6 (io), Y24 IO_L53P_6 (io), Y25 IO_L53N_6 (io), Y26 IO_L50N_6 (io), Y28 IO_L56P_6 (io), Y29 IO_L58P_6 (io), Y30 IO_L58N_6 (io), Y32 IO_L57N_6/VREF_6 (io), Y33 IO_L55P_6 (io), Y34 IO_L55N_6 (io)
part H pins: A28 IO_L03P_7 (io), A29 IO_L04P_7 (io), A31 IO_L06P_7 (io), A32 IO_L07P_7 (io), B26 IO_L01P_7/VRN_7 (io), B27 IO_L01N_7/VRP_7 (io), B28 IO_L03N_7 (io), B29 IO_L04N_7/VREF_7 (io), B30 IO_L10P_7 (io), B31 IO_L06N_7 (io), B32 IO_L07N_7 (io), C26 IO_L02N_7 (io), C28 IO_L09P_7 (io), C29 IO_L09N_7 (io), C30 IO_L10N_7/VREF_7 (io), C33 IO_L12P_7 (io), C34 IO_L12N_7 (io), D26 IO_L02P_7 (io), D27 IO_L05P_7 (io), D28 IO_L13P_7 (io), D29 IO_L15P_7 (io), D30 IO_L15N_7 (io), D31 IO_L16P_7 (io), D32 IO_L18P_7 (io), D33 IO_L19P_7 (io), D34 IO_L19N_7 (io), E27 IO_L05N_7 (io), E28 IO_L13N_7 (io), E29 IO_L21P_7 (io), E31 IO_L16N_7/VREF_7 (io), E32 IO_L18N_7 (io), F27 IO_L22P_7 (io), F28 IO_L22N_7/VREF_7 (io), F29 IO_L21N_7 (io), F30 IO_L24P_7 (io), F31 IO_L25P_7 (io), F32 IO_L25N_7 (io), F33 IO_L27P_7 (io), F34 IO_L27N_7 (io), G28 IO_L28P_7 (io), G29 IO_L28N_7/VREF_7 (io), G30 IO_L24N_7 (io), G32 IO_L30N_7 (io), G33 IO_L31P_7 (io), G34 IO_L31N_7 (io), H27 IO_L08P_7 (io), H28 IO_L08N_7 (io), H29 IO_L33P_7 (io), H30 IO_L33N_7 (io), H31 IO_L30P_7 (io), H32 IO_L34P_7 (io), H33 IO_L34N_7/VREF_7 (io), J27 IO_L11P_7 (io), J28 IO_L14P_7 (io), J29 IO_L14N_7 (io), J31 IO_L36P_7 (io), J32 IO_L37P_7 (io), J33 IO_L37N_7 (io), K26 IO_L17P_7 (io), K27 IO_L11N_7 (io), K28 IO_L20N_7 (io), K29 IO_L39P_7 (io), K30 IO_L39N_7 (io), K31 IO_L36N_7 (io), K32 IO_L40P_7 (io), K33 IO_L42P_7 (io), K34 IO_L42N_7 (io), L25 IO_L23P_7 (io), L26 IO_L17N_7 (io), L28 IO_L20P_7 (io), L29 IO_L43P_7 (io), L30 IO_L43N_7 (io), L32 IO_L40N_7/VREF_7 (io), L33 IO_L45P_7 (io), L34 IO_L45N_7 (io), M25 IO_L23N_7 (io), M26 IO_L26P_7 (io), M27 IO_L26N_7 (io), M28 IO_L29N_7 (io), M29 IO_L46P_7 (io), M30 IO_L46N_7/VREF_7 (io), M31 IO_L48P_7 (io), M32 IO_L48N_7 (io), M33 IO_L49P_7 (io), M34 IO_L49N_7 (io), N24 IO_L32P_7 (io), N25 IO_L32N_7 (io), N27 IO_L29P_7 (io), N28 IO_L35P_7 (io), N29 IO_L35N_7 (io), N31 IO_L51P_7 (io), N32 IO_L52P_7 (io), N33 IO_L52N_7/VREF_7 (io), P24 IO_L38P_7 (io), P25 IO_L38N_7 (io), P26 IO_L41P_7 (io), P27 IO_L44P_7 (io), P28 IO_L44N_7 (io), P29 IO_L54P_7 (io), P30 IO_L54N_7 (io), P31 IO_L51N_7 (io), P32 IO_L55P_7 (io), P33 IO_L57P_7 (io), P34 IO_L57N_7 (io), R24 IO_L47P_7 (io), R25 IO_L47N_7 (io), R26 IO_L41N_7 (io), R28 IO_L50N_7 (io), R29 IO_L58P_7 (io), R30 IO_L58N_7/VREF_7 (io), R32 IO_L55N_7 (io), R33 IO_L60P_7 (io), R34 IO_L60N_7 (io), T24 IO_L53P_7 (io), T25 IO_L53N_7 (io), T27 IO_L50P_7 (io), T28 IO_L56P_7 (io), T29 IO_L56N_7 (io), T31 IO_L85P_7 (io), T32 IO_L85N_7 (io), T33 IO_L87P_7 (io), U24 IO_L59P_7 (io), U25 IO_L59N_7 (io), U26 IO_L86P_7 (io), U27 IO_L86N_7 (io), U28 IO_L89P_7 (io), U29 IO_L89N_7 (io), U30 IO_L88P_7 (io), U31 IO_L88N_7/VREF_7 (io), U32 IO_L90P_7 (io), U33 IO_L87N_7 (io), V32 IO_L90N_7 (io)
part I pins: AF10 DONE (io), AF25 M2 (in), AG9 CCLK (io), AG10 PWRDWN_B (in), AG25 M0 (in), AG26 M1 (in), F9 TDO (out), F26 TDI (in), G9 TCK (in), G26 PROG_B (in), H9 RSVD, H10 TMS (in), H25 HSWAP_EN (in), H26 DXN, J10 VBATT (power), J25 DXP
part J pins: A2 VCCAUX (power), A8 VCCAUX (power), A17 VCCAUX (power), A27 VCCAUX (power), A33 VCCAUX (power), AA12 VCCO_3 (power), AA13 VCCINT (power), AA22 VCCINT (power), AA23 VCCO_6 (power), AB12 VCCO_3 (power), AB13 VCCINT (power), AB14 VCCINT (power), AB15 VCCINT (power), AB16 VCCINT (power), AB17 VCCINT (power), AB18 VCCINT (power), AB19 VCCINT (power), AB20 VCCINT (power), AB21 VCCINT (power), AB22 VCCINT (power), AB23 VCCO_6 (power), AC11 VCCO_3 (power), AC12 VCCINT (power), AC13 VCCO_4 (power), AC14 VCCO_4 (power), AC15 VCCO_4 (power), AC16 VCCO_4 (power), AC17 VCCO_4 (power), AC18 VCCO_5 (power), AC19 VCCO_5 (power), AC20 VCCO_5 (power), AC21 VCCO_5 (power), AC22 VCCO_5 (power), AC23 VCCINT (power), AC24 VCCO_6 (power), AD4 VCCO_3 (power), AD8 VCCO_3 (power), AD11 VCCINT (power), AD12 VCCO_4 (power), AD23 VCCO_5 (power), AD24 VCCINT (power), AD27 VCCO_6 (power), AD31 VCCO_6 (power), AF9 VCCO_3 (power), AF26 VCCO_6 (power), AG1 VCCAUX (power), AG11 VCCO_4 (power), AG15 VCCO_4 (power), AG20 VCCO_5 (power), AG24 VCCO_5 (power), AG34 VCCAUX (power), AH4 VCCO_3 (power), AH8 VCCO_3 (power), AH27 VCCO_6 (power), AH31 VCCO_6 (power), AK2 VCCO_3 (power), AK33 VCCO_6 (power), AL11 VCCO_4 (power), AL15 VCCO_4 (power), AL20 VCCO_5 (power), AL24 VCCO_5 (power), AM4 VCCO_3 (power), AM8 VCCO_3 (power), AM27 VCCO_6 (power), AM31 VCCO_6 (power), AN1 VCCAUX (power), AN34 VCCAUX (power), AP2 VCCAUX (power), AP8 VCCAUX (power), AP17 VCCAUX (power), AP27 VCCAUX (power), AP33 VCCAUX (power), B1 VCCAUX (power), B34 VCCAUX (power), C4 VCCO_2 (power), C8 VCCO_2 (power), C27 VCCO_7 (power), C31 VCCO_7 (power), D11 VCCO_1 (power), D15 VCCO_1 (power), D20 VCCO_0 (power), D24 VCCO_0 (power), E2 VCCO_2 (power), E33 VCCO_7 (power), G4 VCCO_2 (power), G8 VCCO_2 (power), G27 VCCO_7 (power), G31 VCCO_7 (power), H1 VCCAUX (power), H11 VCCO_1 (power), H15 VCCO_1 (power), H20 VCCO_0 (power), H24 VCCO_0 (power), H34 VCCAUX (power), J9 VCCO_2 (power), J26 VCCO_7 (power), L4 VCCO_2 (power), L8 VCCO_2 (power), L11 VCCINT (power), L12 VCCO_1 (power), L23 VCCO_0 (power), L24 VCCINT (power), L27 VCCO_7 (power), L31 VCCO_7 (power), M11 VCCO_2 (power), M12 VCCINT (power), M13 VCCO_1 (power), M14 VCCO_1 (power), M15 VCCO_1 (power), M16 VCCO_1 (power), M17 VCCO_1 (power), M18 VCCO_0 (power), M19 VCCO_0 (power), M20 VCCO_0 (power), M21 VCCO_0 (power), M22 VCCO_0 (power), M23 VCCINT (power), M24 VCCO_7 (power), N12 VCCO_2 (power), N13 VCCINT (power), N14 VCCINT (power), N15 VCCINT (power), N16 VCCINT (power), N17 VCCINT (power), N18 VCCINT (power), N19 VCCINT (power), N20 VCCINT (power), N21 VCCINT (power), N22 VCCINT (power), N23 VCCO_7 (power), P12 VCCO_2 (power), P13 VCCINT (power), P22 VCCINT (power), P23 VCCO_7 (power), R4 VCCO_2 (power), R8 VCCO_2 (power), R12 VCCO_2 (power), R13 VCCINT (power), R22 VCCINT (power), R23 VCCO_7 (power), R27 VCCO_7 (power), R31 VCCO_7 (power), T12 VCCO_2 (power), T13 VCCINT (power), T22 VCCINT (power), T23 VCCO_7 (power), U1 VCCAUX (power), U12 VCCO_2 (power), U13 VCCINT (power), U22 VCCINT (power), U23 VCCO_7 (power), U34 VCCAUX (power), V12 VCCO_3 (power), V13 VCCINT (power), V22 VCCINT (power), V23 VCCO_6 (power), W12 VCCO_3 (power), W13 VCCINT (power), W22 VCCINT (power), W23 VCCO_6 (power), Y4 VCCO_3 (power), Y8 VCCO_3 (power), Y12 VCCO_3 (power), Y13 VCCINT (power), Y22 VCCINT (power), Y23 VCCO_6 (power), Y27 VCCO_6 (power), Y31 VCCO_6 (power)
part K pins: A5 GND (power), A9 GND (power), A13 GND (power), A16 GND (power), A18 GND (power), A19 GND (power), A22 GND (power), A26 GND (power), A30 GND (power), AA15 GND (power), AA16 GND (power), AA17 GND (power), AA18 GND (power), AA19 GND (power), AA20 GND (power), AB1 GND (power), AB5 GND (power), AB9 GND (power), AB26 GND (power), AB30 GND (power), AB34 GND (power), AE10 GND (power), AE25 GND (power), AF1 GND (power), AF5 GND (power), AF13 GND (power), AF16 GND (power), AF19 GND (power), AF22 GND (power), AF30 GND (power), AF34 GND (power), AK1 GND (power), AK5 GND (power), AK9 GND (power), AK13 GND (power), AK16 GND (power), AK19 GND (power), AK22 GND (power), AK26 GND (power), AK30 GND (power), AK34 GND (power), AM3 GND (power), AM32 GND (power), AN2 GND (power), AN33 GND (power), AP5 GND (power), AP9 GND (power), AP13 GND (power), AP16 GND (power), AP18 GND (power), AP19 GND (power), AP22 GND (power), AP26 GND (power), AP30 GND (power), B2 GND (power), B33 GND (power), C3 GND (power), C32 GND (power), E1 GND (power), E5 GND (power), E9 GND (power), E13 GND (power), E16 GND (power), E19 GND (power), E22 GND (power), E26 GND (power), E30 GND (power), E34 GND (power), J1 GND (power), J5 GND (power), J13 GND (power), J16 GND (power), J19 GND (power), J22 GND (power), J30 GND (power), J34 GND (power), K10 GND (power), K25 GND (power), N1 GND (power), N5 GND (power), N9 GND (power), N26 GND (power), N30 GND (power), N34 GND (power), P15 GND (power), P16 GND (power), P17 GND (power), P18 GND (power), P19 GND (power), P20 GND (power), R14 GND (power), R15 GND (power), R16 GND (power), R17 GND (power), R18 GND (power), R19 GND (power), R20 GND (power), R21 GND (power), T1 GND (power), T5 GND (power), T9 GND (power), T14 GND (power), T15 GND (power), T16 GND (power), T17 GND (power), T18 GND (power), T19 GND (power), T20 GND (power), T21 GND (power), T26 GND (power), T30 GND (power), T34 GND (power), U14 GND (power), U15 GND (power), U16 GND (power), U17 GND (power), U18 GND (power), U19 GND (power), U20 GND (power), U21 GND (power), V1 GND (power), V14 GND (power), V15 GND (power), V16 GND (power), V17 GND (power), V18 GND (power), V19 GND (power), V20 GND (power), V21 GND (power), V34 GND (power), W1 GND (power), W5 GND (power), W9 GND (power), W14 GND (power), W15 GND (power), W16 GND (power), W17 GND (power), W18 GND (power), W19 GND (power), W20 GND (power), W21 GND (power), W26 GND (power), W30 GND (power), W34 GND (power), Y14 GND (power), Y15 GND (power), Y16 GND (power), Y17 GND (power), Y18 GND (power), Y19 GND (power), Y20 GND (power), Y21 GND (power)
part A text: BANK 0
part B text: BANK 1
part C text: BANK 2
part D text: BANK 3
part E text: BANK 4
part F text: BANK 5
part G text: BANK 6
part H text: BANK 7

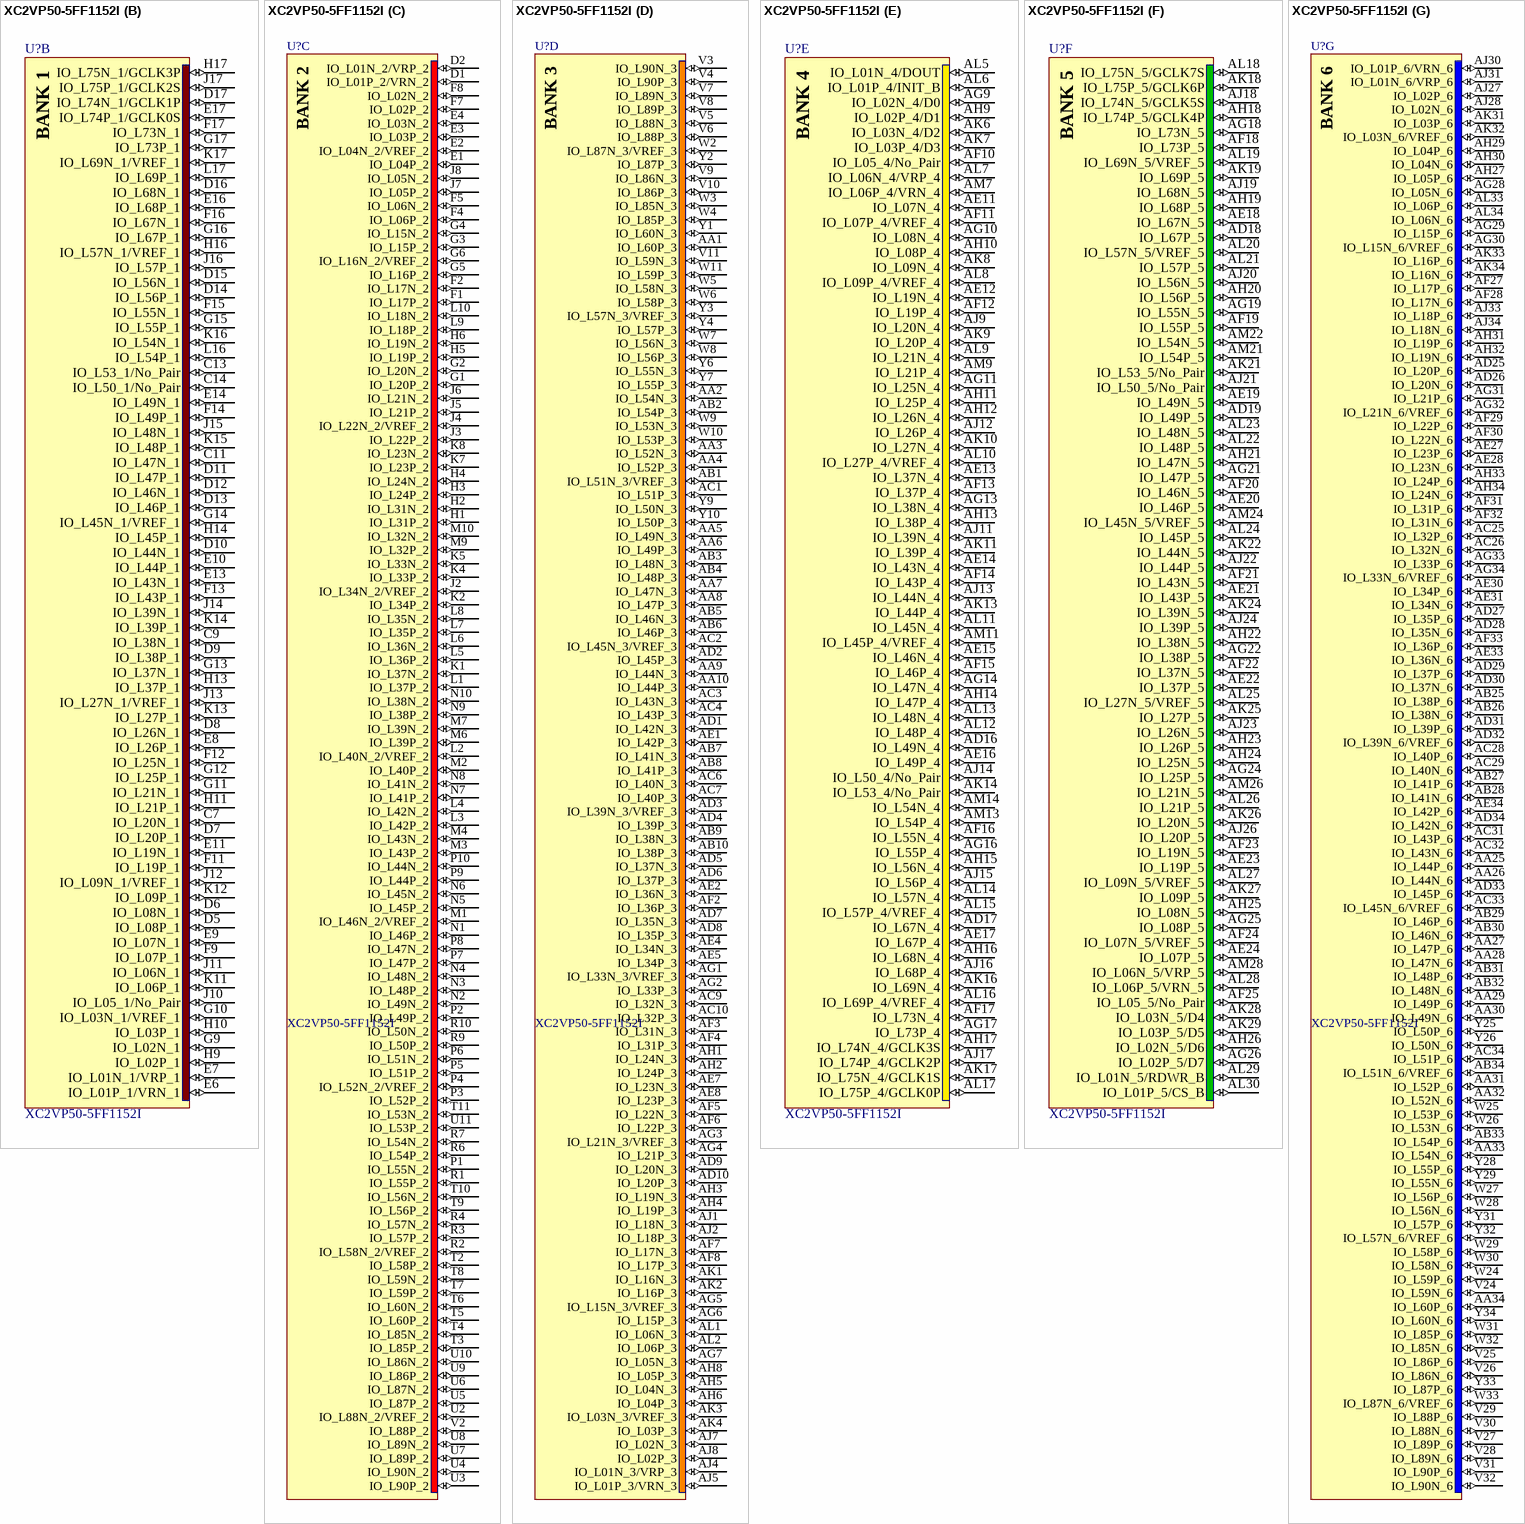
[diagram p4: symbol XC2VP50-5FF1152I]

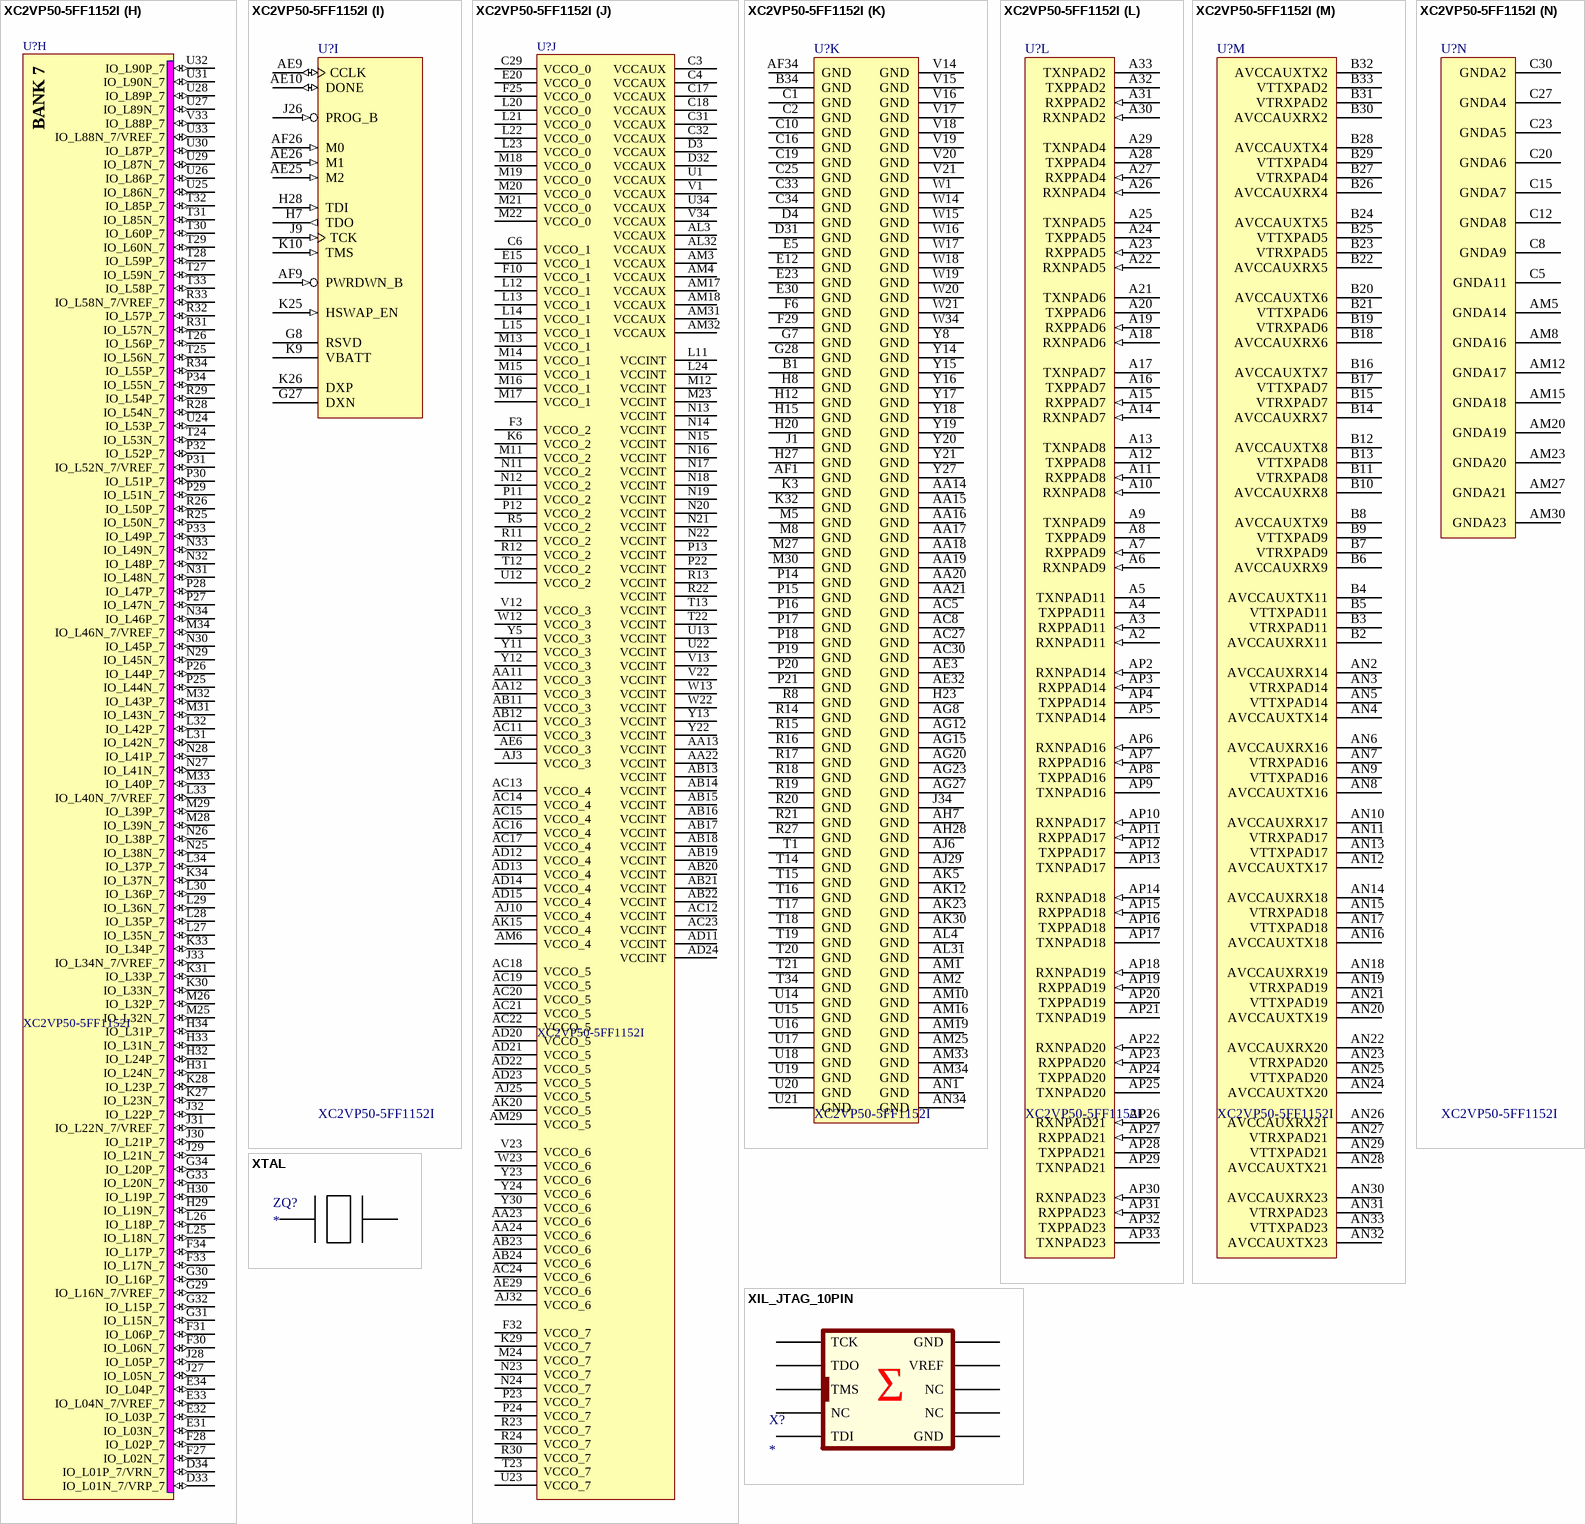
[diagram p5: symbols XC2VP50-5FF1152I to XTAL]